# Altium footprint library RESAD1590W60L630D240.PcbLib: 1 footprints
Each footprint in its own frame and in the unit in brackets; x right, y up, seen from the top. Pads: shape width x height; smd on the part's side, far side on the other; paste and mask are expansions set on the pad; w line width, h text height; cw(c..) or ccw(c..) is an arc to the next point about the centre after c.
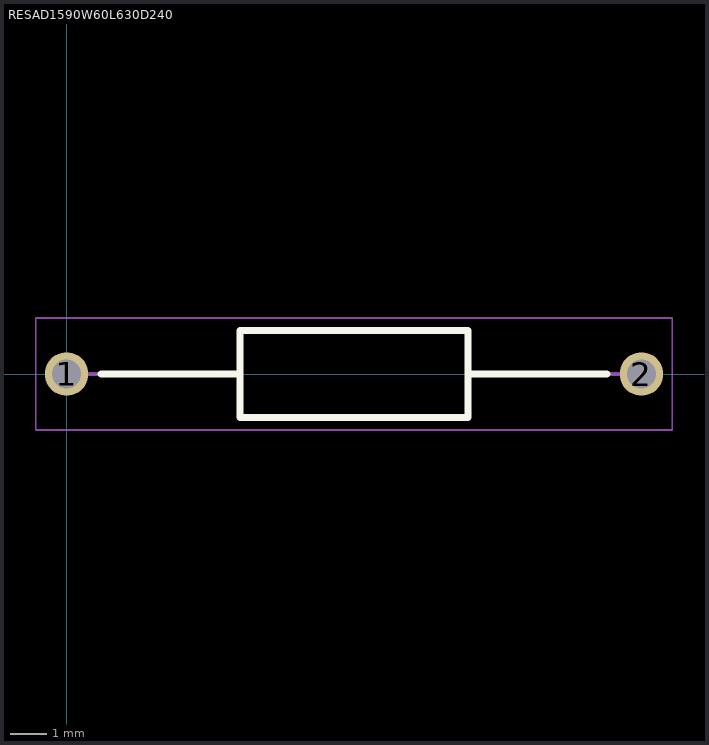
[diagram p0: the footprint, top view; thin cyan lines are the x and y axes]

## RESAD1590W60L630D240 [mm]
pads (2):
  round 1.2 hole 0.8: 1(0,0) 2(15.9,0)
Top Overlay:
  lines w0.2: 0.95,0 4.8,0 ; 11.1,0 14.95,0 ; 4.8,-1.2 11.1,-1.2 11.1,1.2 4.8,1.2 4.8,-1.2
Mechanical 15:
  lines w0.1: 0,0 4.8,0 ; 11.1,0 15.9,0 ; 4.8,-1.2 11.1,-1.2 11.1,1.2 4.8,1.2 4.8,-1.2
Mechanical 20:
  lines w0.05: -0.85,-1.55 16.75,-1.55 16.75,1.55 -0.85,1.55 -0.85,-1.55